# Altium integrated library OMRON Relay.IntLib: 1 symbol
Pins are listed as number, name and electrical type; pins without a type are passive.

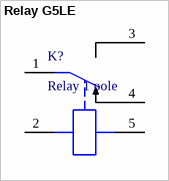
[diagram p0: symbol Relay G5LE]

## Relay G5LE
designator K?, comment Relay 1 pole
Relay G5LE 10A Single Pole
footprint G5LA (Cubic, Single-pole 10A Power Relay)
pins: 1, 2, 3, 4, 5